# Altium schematic symbol library MSAST219LB5106KTNA01.SchLib: 2 symbols
Pins are listed as number, name and electrical type; pins without a type are passive.

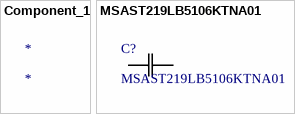
[diagram p0: symbols Component_1 to MSAST219LB5106KTNA01]

## Component_1
designator *

## MSAST219LB5106KTNA01
designator C?
No Description Available; Manufacturer_Name: Taiyo Yuden; Copyright: Copyright (C) 2025 Ultra Librarian. All rights reserved.; Manufacturer_Part_Number: MSAST219LB5106KTNA01
footprint CAP_MSAS21-9_TAY
pins: 1, 2